# EAGLE library part 64902021022 (library Wurth_Elektronik_Electromechanic_Wire_to_Board_Connectors_rev15c)
WR-MPC4-4.20mm Male Dual Row Angled Header with Mounting Flanges for Screw-in Retention,20 pins=>Code : Con_WTB_MPC4_2_PCB_64902021022 <http://katalog.we-online.de/media/thumbs2/eican/thb_Con_WTB_MPC4_2_PCB_6490xx21022_pf2.jpg> Details see: http://katalog.we-online.de/en/em/649_0xx_210_22 Created 2014-06-06, Karrer Zheng 2014 (C) Würth Elektronik
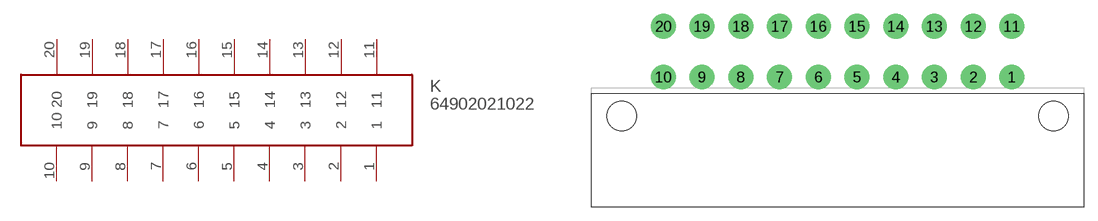
[diagram p310: symbol with the pads of 64902021022; footprint 64902021022]

Designator prefix K

## 64902021022  [64902021022]
1  1
2  2
3  3
4  4
5  5
6  6
7  7
8  8
9  9
10  10
11  11
12  12
13  13
14  14
15  15
16  16
17  17
18  18
19  19
20  20

## Footprint 64902021022 (pad centres in mm)
WR-MPC4-4.20mm Male Dual Row Angled Header with Mounting Flanges for Screw-in Retention,20 pins
drill 1.8: 1 20.465,-2.75; 2 16.265,-2.75; 3 12.065,-2.75; 4 7.865,-2.75; 5 3.665,-2.75; 6 -0.535,-2.75; 7 -4.735,-2.75; 8 -8.935,-2.75; 9 -13.135,-2.75; 10 -17.335,-2.75; 11 20.465,2.75; 12 16.265,2.75; 13 12.065,2.75; 14 7.865,2.75; 15 3.665,2.75; 16 -0.535,2.75; 17 -4.735,2.75; 18 -8.935,2.75; 19 -13.135,2.75; 20 -17.335,2.75
hole 3.2 at -21.835,-6.95
hole 3.2 at 24.965,-6.95